# Altium footprint library PWM_Controller_SG3525.PcbLib: 1 footprints
Each footprint in its own frame and in the unit in brackets; x right, y up, seen from the top. Pads: shape width x height; smd on the part's side, far side on the other; paste and mask are expansions set on the pad; w line width, h text height; cw(c..) or ccw(c..) is an arc to the next point about the centre after c.
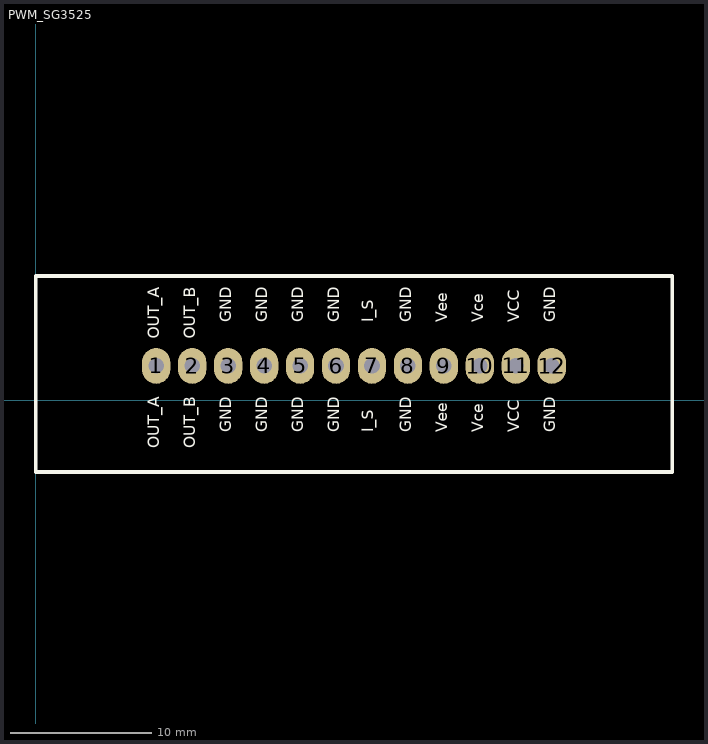
[diagram p0: the footprint, top view; thin cyan lines are the x and y axes]

## PWM_SG3525 [mm]
pads (12):
  oval 2x2.524 hole 1.1: 1(8.5,2.413) 2(11.049,2.413) 3(13.589,2.413) 4(16.129,2.413) 5(18.669,2.413) 6(21.209,2.413) 7(23.749,2.413) 8(26.289,2.413) 9(28.829,2.413) 10(31.369,2.413) 11(33.909,2.413) 12(36.449,2.413)
Top Overlay:
  lines w0.254: 0,-5.08 44.958,-5.08 44.958,8.763 0,8.763 0,-5.08
  text "VCC" at 34.14,-2.263 h0.8
  text "Vce" at 31.6,-2.263 h0.8
  text "Vee" at 29.06,-2.263 h0.8
  text "I_S" at 23.847,-2.263 h0.8
  text "OUT_B" at 11.274,-3.406 h0.8
  text "OUT_A" at 8.734,-3.406 h0.8
  text "GND" at 13.82,-2.263 h0.8
  text "GND" at 16.36,-2.263 h0.8
  text "GND" at 18.9,-2.263 h0.8
  text "GND" at 21.44,-2.263 h0.8
  text "GND" at 26.52,-2.263 h0.8
  text "GND" at 36.68,-2.263 h0.8
  text "VCC" at 34.14,5.484 h0.8
  text "Vce" at 31.6,5.484 h0.8
  text "Vee" at 29.06,5.484 h0.8
  text "I_S" at 23.847,5.484 h0.8
  text "OUT_B" at 11.274,4.341 h0.8
  text "OUT_A" at 8.734,4.341 h0.8
  text "GND" at 13.82,5.484 h0.8
  text "GND" at 16.36,5.484 h0.8
  text "GND" at 18.9,5.484 h0.8
  text "GND" at 21.44,5.484 h0.8
  text "GND" at 26.52,5.484 h0.8
  text "GND" at 36.68,5.484 h0.8
Bottom Overlay:
  text "GND" at 36.68,-0.15 h0.8
  text "VCC" at 34.013,-0.023 h0.8
  text "Vce" at 31.473,-0.023 h0.8
  text "Vee" at 29.06,-0.023 h0.8
  text "GND" at 26.52,-0.023 h0.8
  text "I_S" at 23.847,-0.15 h0.8
  text "GND" at 21.44,-0.15 h0.8
  text "GND" at 18.9,-0.023 h0.8
  text "GND" at 16.233,-0.023 h0.8
  text "GND" at 13.693,-0.023 h0.8
  text "OUT_B" at 11.274,-0.023 h0.8
  text "OUT_A" at 8.861,0.104 h0.8
3D body "PWM_Controller_SG3525.step": height 42, standoff -3.92, extent 0,-4 45,7.594